# EAGLE library part CONN-1X6 (library angrypig7-Connectors-Programming)
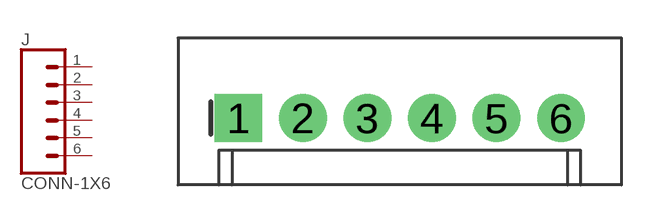
[diagram p9: symbol with the pads of MOLEX-1X6-2.54MM; footprint MOLEX-1X6-2.54MM]

Designator prefix J

## CONN-1X6  [MOLEX-1X6-2.54MM]
1  1  pas
2  2  pas
3  3  pas
4  4  pas
5  5  pas
6  6  pas

## Footprint MOLEX-1X6-2.54MM (pad centres in mm)
drill 1.016 pad 1.88 square: 1 0,0
drill 1.016 pad 1.88: 2 2.54,0; 3 5.08,0; 4 7.62,0; 5 10.16,0; 6 12.7,0